# EAGLE library part CM1422-03CP (library Filters)
FILTER RC(PI) 100 OHM/15PF SMD Manufacturer's datasheet <https://www.onsemi.com/pub/Collateral/CM1420-D.PDF>
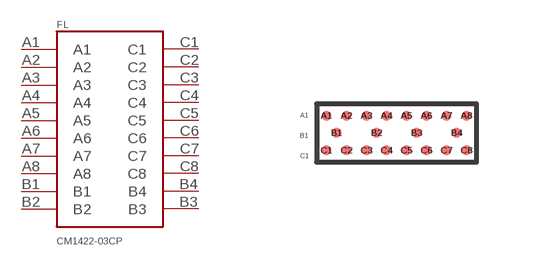
[diagram p12: symbol with the pads of CM1422-03CP; footprint CM1422-03CP]

Designator prefix FL

## CM1422-03CP (CREATED_BY: PCBLayout.com; DIGIKEY_PN: CM1422-03CPOSTR-ND; MANUFACTURER: ON Semiconductor; MPN: CM1422-03CP; PACKAGE: 20-WFBGA)  [CM1422-03CP]
A1  A1  pas
A2  A2  pas
A3  A3  pas
A4  A4  pas
A5  A5  pas
A6  A6  pas
A7  A7  pas
A8  A8  pas
B1  B1  pas
B2  B2  pas
B3  B3  pas
B4  B4  pas
C1  C1  pas
C2  C2  pas
C3  C3  pas
C4  C4  pas
C5  C5  pas
C6  C6  pas
C7  C7  pas
C8  C8  pas

## Footprint CM1422-03CP (pad centres in mm)
smd 0.25 x 0.25: A1 -1.75,0.435; A2 -1.25,0.435; A3 -0.75,0.435; A4 -0.25,0.435; A5 0.25,0.435; A6 0.75,0.435; A7 1.25,0.435; A8 1.75,0.435; B1 -1.5,0.005; B2 -0.5,0.005; B3 0.5,0.005; B4 1.5,0.005; C1 -1.75,-0.435; C2 -1.25,-0.435; C3 -0.75,-0.435; C4 -0.25,-0.435; C5 0.25,-0.435; C6 0.75,-0.435; C7 1.25,-0.435; C8 1.75,-0.435